# Altium integrated library ECEN299_JLC_Library.IntLib: 29 symbols
Pins are listed as number, name and electrical type; pins without a type are passive.

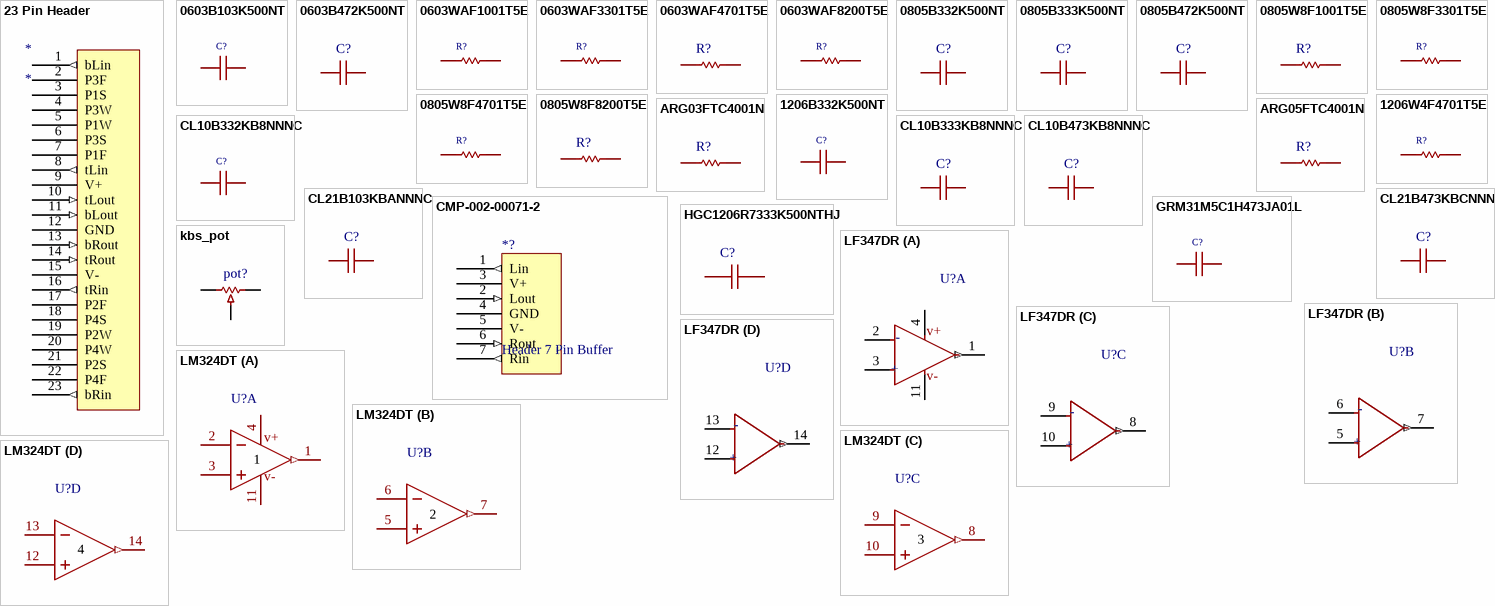
[diagram p0: symbols 23 Pin Header to LM324DT]

## 23 Pin Header
designator *
footprint KBS_23pin_Header_TB_EQ
simulation model NOTSIMULATED (Model Description)
pins: 1 bLin (out), 2 P3F, 3 P1S, 4 P3W, 5 P1W, 6 P3S, 7 P1F, 8 tLin (out), 9 V+ (power), 10 tLout (in), 11 bLout (in), 12 GND (power), 13 bRout (in), 14 tRout (in), 15 V- (power), 16 tRin (out), 17 P2F, 18 P4S, 19 P2W, 20 P4W, 21 P2S, 22 P4F, 23 bRin (out)

## 0603B103K500NT
designator C?  (value not drawn)
Capacitance:10nF Tolerance:±10% Tolerance:±10% Voltage Rated: Temperature Coefficient:; Manufacturer: FH(风华); Value: 10nF; Add into BOM: yes; Tolerance: ±10%; Symbol: 0603B103K500NT; Device: 0603B103K500NT; Supplier: LCSC; Manufacturer Part: 0603B103K500NT; Supplier Part: C57112; JLCPCB Part Class: Basic Part; LCSC Part Name: 10nF ±10% 50V; Supplier Footprint: 0603; Datasheet: https://atta.szlcsc.com/upload/public/pdf/source/20200305/C486355_26A10D38EF8C2A5C37091D0039909270.pdf; Convert to PCB: yes
footprint C0603
3D model C0603_L1.6-W0.8-H0.8
simulation model C_Capacitor_Default (Model Description)
pins: 1, 2

## 0603B472K500NT
designator C?  (value not drawn)
Capacitance:4.7nF Tolerance:±10% Tolerance:±10% Voltage Rated: Temperature Coefficient:; Manufacturer: FH(风华); Add into BOM: yes; Value: 4.7nF; Tolerance: ±10%; Symbol: 0603B472K500NT; Device: 0603B472K500NT; LCSC Part Name: 4.7nF ±10% 50V; Supplier Part: C53987; Manufacturer Part: 0603B472K500NT; Supplier Footprint: 0603; JLCPCB Part Class: Basic Part; Datasheet: https://atta.szlcsc.com/upload/public/pdf/source/20200305/C486355_26A10D38EF8C2A5C37091D0039909270.pdf; Supplier: LCSC; Convert to PCB: yes
footprint C0603
3D model C0603_L1.6-W0.8-H0.8
simulation model C_Capacitor_Default (Model Description)
pins: 1, 2

## 0603WAF1001T5E
designator R?  (value not drawn)
Type:Thick Film Resistors Resistance:1kΩ Tolerance:±1% Tolerance:±1% Power(Watts): Overload Voltage (Max): Temperature Coefficient:±100ppm/℃ Temperature Coefficient:±100ppm/℃ Operating Temperature Range:-55℃~+155℃ Operating Temperature Range:-55℃~+155℃; Manufacturer: UNI-ROYAL(厚声); Value: 1kΩ; Add into BOM: yes; Tolerance: ±1%; Symbol: 0603WAF1001T5E; Device: 0603WAF1001T5E; Supplier: LCSC; Manufacturer Part: 0603WAF1001T5E; Supplier Part: C21190; JLCPCB Part Class: Basic Part; LCSC Part Name: 1kΩ ±1% 100mW 厚膜电阻; Supplier Footprint: 0603; Datasheet: https://atta.szlcsc.com/upload/public/pdf/source/20200306/C422600_1E6D84923E4A46A82E41ADD87F860B5C.pdf; Convert to PCB: yes; Type: Thick Film Resistors; Temperature Coefficient: ±100ppm/℃; Operating Temperature Range: -55℃~+155℃
footprint R0603
3D model R0603
simulation model R_Resistor_Default (Model Description)
pins: 1, 2

## 0603WAF3301T5E
designator R?  (value not drawn)
Type:Thick Film Resistors Resistance:3.3kΩ Tolerance:±1% Tolerance:±1% Power(Watts): Overload Voltage (Max): Temperature Coefficient:±100ppm/℃ Temperature Coefficient:±100ppm/℃ Operating Temperature Range:-55℃~+155℃ Operating Temperature Range:-55℃~+155℃; Manufacturer: UNI-ROYAL(厚声); Value: 3.3kΩ; Add into BOM: yes; Tolerance: ±1%; Symbol: 0603WAF3301T5E; Device: 0603WAF3301T5E; Supplier: LCSC; Manufacturer Part: 0603WAF3301T5E; Supplier Part: C22978; JLCPCB Part Class: Basic Part; LCSC Part Name: 3.3kΩ ±1% 100mW 厚膜电阻; Supplier Footprint: 0603; Datasheet: https://atta.szlcsc.com/upload/public/pdf/source/20200306/C422600_1E6D84923E4A46A82E41ADD87F860B5C.pdf; Convert to PCB: yes; Type: Thick Film Resistors; Temperature Coefficient: ±100ppm/℃; Operating Temperature Range: -55℃~+155℃
footprint R0603
3D model R0603
simulation model R_Resistor_Default (Model Description)
pins: 1, 2

## 0603WAF4701T5E
designator R?  (value not drawn)
Type:Thick Film Resistors Resistance:4.7kΩ Tolerance:±1% Tolerance:±1% Power(Watts): Overload Voltage (Max): Temperature Coefficient:±100ppm/℃ Temperature Coefficient:±100ppm/℃ Operating Temperature Range:-55℃~+155℃ Operating Temperature Range:-55℃~+155℃; Manufacturer: UNI-ROYAL(厚声); Add into BOM: yes; Value: 4.7kΩ; Tolerance: ±1%; Symbol: 0603WAF4701T5E; Device: 0603WAF4701T5E; LCSC Part Name: 4.7kΩ ±1% 100mW 厚膜电阻; Supplier Part: C23162; Manufacturer Part: 0603WAF4701T5E; Supplier Footprint: 0603; JLCPCB Part Class: Basic Part; Datasheet: https://atta.szlcsc.com/upload/public/pdf/source/20200306/C422600_1E6D84923E4A46A82E41ADD87F860B5C.pdf; Supplier: LCSC; Convert to PCB: yes; Type: Thick Film Resistors; Temperature Coefficient: ±100ppm/℃; Operating Temperature Range: -55℃~+155℃
footprint R0603
3D model R0603
simulation model R_Resistor_Default (Model Description)
pins: 1, 2

## 0603WAF8200T5E
designator R?  (value not drawn)
Type:Thick Film Resistors Resistance: Tolerance:±1% Tolerance:±1% Power(Watts): Overload Voltage (Max): Temperature Coefficient:±100ppm/℃ Temperature Coefficient:±100ppm/℃ Operating Temperature Range:-55℃~+155℃ Operating Temperature Range:-55℃~+155℃; Manufacturer: UNI-ROYAL(厚声); Value: 820Ω; Add into BOM: yes; Tolerance: ±1%; Symbol: 0603WAF8200T5E; Device: 0603WAF8200T5E; Supplier: LCSC; Manufacturer Part: 0603WAF8200T5E; Supplier Part: C23253; LCSC Part Name: 820Ω ±1% 100mW 厚膜电阻; Supplier Footprint: 0603; Datasheet: https://atta.szlcsc.com/upload/public/pdf/source/20200306/C422600_1E6D84923E4A46A82E41ADD87F860B5C.pdf; Convert to PCB: yes; Type: Thick Film Resistors; Temperature Coefficient: ±100ppm/℃; Operating Temperature Range: -55℃~+155℃
footprint R0603
3D model R0603
simulation model R_Resistor_Default (Model Description)
pins: 1, 2

## 0805B332K500NT
designator C?  (value not drawn)
Capacitance:3.3nF Tolerance:±10% Tolerance:±10% Voltage Rated: Temperature Coefficient:; Manufacturer: FH(风华); Add into BOM: yes; Value: 3.3nF; Tolerance: ±10%; Symbol: 0805B332K500NT; Device: 0805B332K500NT; LCSC Part Name: 3.3nF ±10% 50V; Supplier Part: C1738; Manufacturer Part: 0805B332K500NT; Supplier Footprint: 0805; JLCPCB Part Class: Extended Part; Datasheet: https://atta.szlcsc.com/upload/public/pdf/source/20200305/C486355_26A10D38EF8C2A5C37091D0039909270.pdf; Supplier: LCSC; Convert to PCB: yes
footprint C0805
3D model C0805_L2.0-W1.3-H1.3
simulation model C_Capacitor_Default (Model Description)
pins: 1, 2

## 0805B333K500NT
designator C?  (value not drawn)
Capacitance:33nF Tolerance:±10% Tolerance:±10% Voltage Rated: Temperature Coefficient:; Manufacturer: FH(风华); Add into BOM: yes; Value: 33nF; Tolerance: ±10%; Symbol: 0805B333K500NT; Device: 0805B333K500NT; LCSC Part Name: 33nF ±10% 50V; Supplier Part: C1739; Manufacturer Part: 0805B333K500NT; Supplier Footprint: 0805; JLCPCB Part Class: Basic Part; Datasheet: https://atta.szlcsc.com/upload/public/pdf/source/20200305/C486355_26A10D38EF8C2A5C37091D0039909270.pdf; Supplier: LCSC; Convert to PCB: yes
footprint C0805
3D model C0805_L2.0-W1.3-H1.3
simulation model C_Capacitor_Default (Model Description)
pins: 1, 2

## 0805B472K500NT
designator C?  (value not drawn)
Capacitance:4.7nF Tolerance:±10% Tolerance:±10% Voltage Rated: Temperature Coefficient:; Manufacturer: FH(风华); Add into BOM: yes; Value: 4.7nF; Tolerance: ±10%; Symbol: 0805B472K500NT; Device: 0805B472K500NT; LCSC Part Name: 4.7nF ±10% 50V; Supplier Part: C1744; Manufacturer Part: 0805B472K500NT; Supplier Footprint: 0805; JLCPCB Part Class: Basic Part; Datasheet: https://atta.szlcsc.com/upload/public/pdf/source/20200305/C486355_26A10D38EF8C2A5C37091D0039909270.pdf; Supplier: LCSC; Convert to PCB: yes
footprint C0805
3D model C0805_L2.0-W1.3-H1.3
simulation model C_Capacitor_Default (Model Description)
pins: 1, 2

## 0805W8F1001T5E
designator R?  (value not drawn)
Type:Thick Film Resistors Resistance:1kΩ Tolerance:±1% Tolerance:±1% Power(Watts): Overload Voltage (Max): Temperature Coefficient:±100ppm/℃ Temperature Coefficient:±100ppm/℃ Operating Temperature Range:-55℃~+155℃ Operating Temperature Range:-55℃~+155℃; Manufacturer: UNI-ROYAL(厚声); Add into BOM: yes; Value: 1kΩ; Tolerance: ±1%; Symbol: 0805W8F1001T5E; Device: 0805W8F1001T5E; LCSC Part Name: 1kΩ ±1% 125mW 厚膜电阻; Supplier Part: C17513; Manufacturer Part: 0805W8F1001T5E; Supplier Footprint: 0805; JLCPCB Part Class: Basic Part; Datasheet: https://atta.szlcsc.com/upload/public/pdf/source/20200306/C422600_1E6D84923E4A46A82E41ADD87F860B5C.pdf; Supplier: LCSC; Convert to PCB: yes; Type: Thick Film Resistors; Temperature Coefficient: ±100ppm/℃; Operating Temperature Range: -55℃~+155℃
footprint R0805
3D model R0805_L2.0-W1.3-H0.6
simulation model R_Resistor_Default (Model Description)
pins: 1, 2

## 0805W8F3301T5E
designator R?  (value not drawn)
Type:Thick Film Resistors Resistance:3.3kΩ Tolerance:±1% Tolerance:±1% Power(Watts): Overload Voltage (Max): Temperature Coefficient:±100ppm/℃ Temperature Coefficient:±100ppm/℃ Operating Temperature Range:-55℃~+155℃ Operating Temperature Range:-55℃~+155℃; Manufacturer: UNI-ROYAL(厚声); Value: 1K; Add into BOM: yes; Tolerance: ±1%; Symbol: 0805W8F3301T5E; Device: 0805W8F3301T5E; Supplier: LCSC; Manufacturer Part: 0805W8F3301T5E; Supplier Part: C26010; LCSC Part Name: 3.3kΩ ±1% 125mW 厚膜电阻; Supplier Footprint: 0805; Datasheet: https://atta.szlcsc.com/upload/public/pdf/source/20200306/C422600_1E6D84923E4A46A82E41ADD87F860B5C.pdf; Convert to PCB: yes; Type: Thick Film Resistors; Temperature Coefficient: ±100ppm/℃; Operating Temperature Range: -55℃~+155℃
footprint R0805
3D model R0805_L2.0-W1.3-H0.6
simulation model R_Resistor_Default (Model Description)
pins: 1, 2

## 0805W8F4701T5E
designator R?  (value not drawn)
Type:Thick Film Resistors Resistance:4.7kΩ Tolerance:±1% Tolerance:±1% Power(Watts): Overload Voltage (Max): Temperature Coefficient:±100ppm/℃ Temperature Coefficient:±100ppm/℃ Operating Temperature Range:-55℃~+155℃ Operating Temperature Range:-55℃~+155℃; Manufacturer: UNI-ROYAL(厚声); Value: 4.7kΩ; Add into BOM: yes; Tolerance: ±1%; Symbol: 0805W8F4701T5E; Device: 0805W8F4701T5E; Supplier: LCSC; Manufacturer Part: 0805W8F4701T5E; Supplier Part: C17673; LCSC Part Name: 4.7kΩ ±1% 125mW 厚膜电阻; Supplier Footprint: 0805; Datasheet: https://atta.szlcsc.com/upload/public/pdf/source/20200306/C422600_1E6D84923E4A46A82E41ADD87F860B5C.pdf; Convert to PCB: yes; Type: Thick Film Resistors; Temperature Coefficient: ±100ppm/℃; Operating Temperature Range: -55℃~+155℃
footprint R0805
3D model R0805_L2.0-W1.3-H0.6
simulation model R_Resistor_Default (Model Description)
pins: 1, 2

## 0805W8F8200T5E
designator R?  (value not drawn)
Type:Thick Film Resistors Resistance: Tolerance:±1% Tolerance:±1% Power(Watts): Overload Voltage (Max): Temperature Coefficient:±100ppm/℃ Temperature Coefficient:±100ppm/℃ Operating Temperature Range:-55℃~+155℃ Operating Temperature Range:-55℃~+155℃; Manufacturer: UNI-ROYAL(厚声); Add into BOM: yes; Value: 1K; Tolerance: ±1%; Symbol: 0805W8F8200T5E; Device: 0805W8F8200T5E; LCSC Part Name: 820Ω ±1% 125mW 厚膜电阻; Supplier Part: C17837; Manufacturer Part: 0805W8F8200T5E; Supplier Footprint: 0805; JLCPCB Part Class: Extended Part; Datasheet: https://atta.szlcsc.com/upload/public/pdf/source/20200306/C422600_1E6D84923E4A46A82E41ADD87F860B5C.pdf; Supplier: LCSC; Convert to PCB: yes; Type: Thick Film Resistors; Temperature Coefficient: ±100ppm/℃; Operating Temperature Range: -55℃~+155℃
footprint R0805
3D model R0805_L2.0-W1.3-H0.6
simulation model R_Resistor_Default (Model Description)
pins: 1, 2

## 1206B332K500NT
designator C?  (value not drawn)
Capacitance:3.3nF Tolerance:±10% Tolerance:±10% Voltage Rated: Temperature Coefficient:; Manufacturer: FH(风华); Value: 3.3nF; Add into BOM: yes; Tolerance: ±10%; Symbol: 1206B332K500NT; Device: 1206B332K500NT; Supplier: LCSC; Manufacturer Part: 1206B332K500NT; Supplier Part: C1863; JLCPCB Part Class: Extended Part; LCSC Part Name: 3.3nF ±10% 50V; Supplier Footprint: 1206; Datasheet: https://atta.szlcsc.com/upload/public/pdf/source/20200305/C486355_26A10D38EF8C2A5C37091D0039909270.pdf; Convert to PCB: yes
footprint C1206
3D model C1206_L3.2-W1.6-H1.3
simulation model C_Capacitor_Default (Model Description)
pins: 1, 2

## 1206W4F4701T5E
designator R?  (value not drawn)
Type:Thick Film Resistors Resistance:4.7kΩ Tolerance:±1% Tolerance:±1% Power(Watts): Overload Voltage (Max): Temperature Coefficient:±100ppm/℃ Temperature Coefficient:±100ppm/℃ Operating Temperature Range:-55℃~+155℃ Operating Temperature Range:-55℃~+155℃; Manufacturer: UNI-ROYAL(厚声); Value: 4.7kΩ; Add into BOM: yes; Tolerance: ±1%; Symbol: 1206W4F4701T5E; Device: 1206W4F4701T5E; Supplier: LCSC; Manufacturer Part: 1206W4F4701T5E; Supplier Part: C17936; LCSC Part Name: 4.7kΩ ±1% 250mW 厚膜电阻; Supplier Footprint: 1206; Datasheet: https://atta.szlcsc.com/upload/public/pdf/source/20200306/C422600_1E6D84923E4A46A82E41ADD87F860B5C.pdf; Convert to PCB: yes; Type: Thick Film Resistors; Temperature Coefficient: ±100ppm/℃; Operating Temperature Range: -55℃~+155℃
footprint R1206
simulation model R_Resistor_Default (Model Description)
pins: 1, 2

## ARG03FTC4001N
designator R?  (value not drawn)
Type:Thin Film Resistor Resistance: Tolerance:±1% Tolerance:±1%; Manufacturer: Viking(光颉); Add into BOM: yes; Value: 4kΩ; Tolerance: ±1%; Symbol: ARG03FTC4001N; Device: ARG03FTC4001N; LCSC Part Name: 4kΩ ±1%; Supplier Part: C2984443; Manufacturer Part: ARG03FTC4001N; Supplier Footprint: 0603; JLCPCB Part Class: Extended Part; Datasheet: https://atta.szlcsc.com/upload/public/pdf/source/20200117/C485675_99063924B4564AF910B7BE66DA8EFA49.pdf; Supplier: LCSC; Convert to PCB: yes; Type: Thin Film Resistor
footprint R0603
3D model R0603
simulation model R_Resistor_Default (Model Description)
pins: 1, 2

## ARG05FTC4001N
designator R?  (value not drawn)
Type:Thin Film Resistor Resistance: Tolerance:±1% Tolerance:±1% Power(Watts): Overload Voltage (Max): Temperature Coefficient:±25ppm/℃ Temperature Coefficient:±25ppm/℃ Operating Temperature Range:-55℃~+155℃ Operating Temperature Range:-55℃~+155℃; Manufacturer: Viking(光颉); Add into BOM: yes; Value: 4kΩ; Tolerance: ±1%; Symbol: ARG05FTC4001N; Device: ARG05FTC4001N; LCSC Part Name: 薄膜电阻 4kΩ ±1% 125mW; Supplier Part: C2828855; Manufacturer Part: ARG05FTC4001N; Supplier Footprint: 0805; Datasheet: https://atta.szlcsc.com/upload/public/pdf/source/20211009/C2828883_CAE7D170B8B230FC4A048BDC7B3A81FC.pdf; Supplier: LCSC; Convert to PCB: yes; Type: Thin Film Resistor; Temperature Coefficient: ±25ppm/℃; Operating Temperature Range: -55℃~+155℃
footprint R0805
3D model R0805_L2.0-W1.3-H0.6
simulation model R_Resistor_Default (Model Description)
pins: 1, 2

## CL10B332KB8NNNC
designator C?  (value not drawn)
Capacitance: Tolerance:±10% Tolerance:±10% Voltage Rated: Temperature Coefficient:; Manufacturer: SAMSUNG(三星); Value: 3.3nF; Add into BOM: yes; Tolerance: ±10%; Symbol: CL10B332KB8NNNC; Device: CL10B332KB8NNNC; Supplier: LCSC; Manufacturer Part: CL10B332KB8NNNC; Supplier Part: C1613; JLCPCB Part Class: Basic Part; LCSC Part Name: 3.3nF ±10% 50V; Supplier Footprint: 0603; Datasheet: https://atta.szlcsc.com/upload/public/pdf/source/20160218/1457707763339.pdf; Convert to PCB: yes
footprint C0603
3D model C0603_L1.6-W0.8-H0.8
simulation model C_Capacitor_Default (Model Description)
pins: 1, 2

## CL10B333KB8NNNC
designator C?  (value not drawn)
Capacitance: Tolerance:±10% Tolerance:±10% Voltage Rated: Temperature Coefficient:; Manufacturer: SAMSUNG(三星); Add into BOM: yes; Value: 33nF; Tolerance: ±10%; Symbol: CL10B333KB8NNNC; Device: CL10B333KB8NNNC; LCSC Part Name: 33nF ±10% 50V; Supplier Part: C21117; Manufacturer Part: CL10B333KB8NNNC; Supplier Footprint: 0603; JLCPCB Part Class: Basic Part; Datasheet: https://atta.szlcsc.com/upload/public/pdf/source/20160218/1457707763339.pdf; Supplier: LCSC; Convert to PCB: yes
footprint C0603
3D model C0603_L1.6-W0.8-H0.8
simulation model C_Capacitor_Default (Model Description)
pins: 1, 2

## CL10B473KB8NNNC
designator C?  (value not drawn)
Capacitance: Tolerance:±10% Tolerance:±10% Voltage Rated: Temperature Coefficient:; Manufacturer: SAMSUNG(三星); Add into BOM: yes; Value: 47nF; Tolerance: ±10%; Symbol: CL10B473KB8NNNC; Device: CL10B473KB8NNNC; LCSC Part Name: 47nF ±10% 50V; Supplier Part: C1622; Manufacturer Part: CL10B473KB8NNNC; Supplier Footprint: 0603; Datasheet: https://atta.szlcsc.com/upload/public/pdf/source/20160218/1457707763339.pdf; Supplier: LCSC; Convert to PCB: yes
footprint C0603
3D model C0603_L1.6-W0.8-H0.8
simulation model C_Capacitor_Default (Model Description)
pins: 1, 2

## CL21B103KBANNNC
designator C?  (value not drawn)
Capacitance: Tolerance:±10% Tolerance:±10% Voltage Rated: Temperature Coefficient:; Manufacturer: SAMSUNG(三星); Add into BOM: yes; Value: 10nF; Tolerance: ±10%; Symbol: CL21B103KBANNNC; Device: CL21B103KBANNNC; LCSC Part Name: 10nF ±10% 50V; Supplier Part: C1710; Manufacturer Part: CL21B103KBANNNC; Supplier Footprint: 0805; JLCPCB Part Class: Basic Part; Datasheet: https://atta.szlcsc.com/upload/public/pdf/source/20160218/1457707763339.pdf; Supplier: LCSC; Convert to PCB: yes
footprint C0805
3D model C0805_L2.0-W1.3-H1.3
simulation model C_Capacitor_Default (Model Description)
pins: 1, 2

## CL21B473KBCNNNC
designator C?  (value not drawn)
Capacitance: Tolerance:±10% Tolerance:±10% Voltage Rated: Temperature Coefficient:; Manufacturer: SAMSUNG(三星); Add into BOM: yes; Value: 47nF; Tolerance: ±10%; Symbol: CL21B473KBCNNNC; Device: CL21B473KBCNNNC; LCSC Part Name: 47nF ±10% 50V; Supplier Part: C53134; Manufacturer Part: CL21B473KBCNNNC; Supplier Footprint: 0805; Datasheet: https://atta.szlcsc.com/upload/public/pdf/source/20160218/1457707763339.pdf; Supplier: LCSC; Convert to PCB: yes
footprint C0805
3D model C0805_L2.0-W1.3-H1.3
simulation model C_Capacitor_Default (Model Description)
pins: 1, 2

## CMP-002-00071-2
designator *?, comment Header 7 Pin Buffer
7 Pin Header for ECEN 299 buffer PCB.; Component Type: Connectors
footprint KBS_7pin_Header_Buffer
simulation model NOTSIMULATED (Model Description)
pins: 1 Lin (out), 2 Lout (in), 3 V+ (power), 4 GND (power), 5 V- (power), 6 Rout (in), 7 Rin (out)

## GRM31M5C1H473JA01L
designator C?  (value not drawn)
Capacitance: Tolerance:±5% Tolerance:±5% Voltage Rated: Temperature Coefficient:; Manufacturer: muRata(村田); Value: 47nF; Add into BOM: yes; Tolerance: ±5%; Symbol: GRM31M5C1H473JA01L; Device: GRM31M5C1H473JA01L; JLCPCB Part Class: Extended Part; Supplier: LCSC; Manufacturer Part: GRM31M5C1H473JA01L; Supplier Part: C21812; LCSC Part Name: 47nF ±5% 50V; Supplier Footprint: 1206; Datasheet: https://atta.szlcsc.com/upload/public/pdf/source/20180228/C21812_15198055830211377594.pdf; Convert to PCB: yes
footprint C1206
3D model C1206_L3.2-W1.6-H1.3
simulation model C_Capacitor_Default (Model Description)
pins: 1, 2

## HGC1206R7333K500NTHJ
designator C?  (value not drawn)
Capacitance: Voltage Rated: Temperature Coefficient:; Manufacturer: Chinocera(华瓷); Add into BOM: yes; Value: 33nF; Symbol: HGC1206R7333K500NTHJ; Device: HGC1206R7333K500NTHJ; LCSC Part Name: 33nF 50V; Supplier Part: C5186847; Manufacturer Part: HGC1206R7333K500NTHJ; Supplier Footprint: 1206; JLCPCB Part Class: Extended Part; Datasheet: https://atta.szlcsc.com/upload/public/pdf/source/20240320/FAC3FEC40A78BC5CCCE96C232A94D860.pdf; Supplier: LCSC; Convert to PCB: yes
footprint C1206
3D model C1206_L3.2-W1.6-H1.3
simulation model C_Capacitor_Default (Model Description)
pins: 1, 2

## kbs_pot
designator pot?  (value not drawn)
value: 10k; position: 0.5
simulation model POT (Model Description)
pins: 0 End1, 1 End2, 2 Wiper

## LF347DR
designator U?  (value not drawn)
Gain Bandwidth Product(GBP):3MHz Current - Input Bias(Ib):50pA Voltage - Input Offset(Vos):5mV Slew Rate(SR):13V/us Supply Current Per Channel:8mA Operating Temperature:0℃~+70℃ Operating Temperature:0℃~+70℃; Manufacturer: TI(德州仪器); Add into BOM: yes; Gain Bandwidth Product(GBP): 3MHz; Current - Input Bias(Ib): 50pA; Voltage - Input Offset(Vos): 5mV; Slew Rate(SR): 13V/us; Supply Current Per Channel: 8mA; Symbol: LF347DR; Device: LF347DR; LCSC Part Name: LF347DR; Supplier Part: C7917; Manufacturer Part: LF347DR; Supplier Footprint: SOIC-14; JLCPCB Part Class: Extended Part; Datasheet: http://www.ti.com/cn/lit/gpn/lf347; Supplier: LCSC; Convert to PCB: yes; Operating Temperature: 0℃~+70℃
footprint SOIC-14_L8.7-W3.9-P1.27-LS6.0-BL
3D model SOIC-14_L8.6-W3.9-H1.8-LS6.0-P1.27
footprint KBS_SO14_w_Guide_Pin_Holes
simulation model IdealOpamp_Saturating (Model Description)
part A pins: 1 1OUT (out), 2 1IN-, 3 1IN+, 4 VCC+ (power), 11 VCC- (power)
part B pins: 5 2IN+, 6 2IN-, 7 2OUT (out)
part C pins: 8 3OUT (out), 9 3IN-, 10 3IN+
part D pins: 12 4IN+, 13 4IN-, 14 4OUT (out)
part A text: v+; -; +; v-
part B text: -; +
part C text: -; +
part D text: -; +

## LM324DT
designator U?  (value not drawn)
Number of Circuits:Quad Gain Bandwidth Product(GBP):1.3MHz Current - Input Bias(Ib):20nA Slew Rate(SR):0.4V/us Output Current:40mA -3db Bandwidth:- Supply Current:1.5mA Operating Temperature:0℃~+70℃ Operating Temperature:0℃~+70℃; Manufacturer: ST(意法半导体); Add into BOM: yes; Number of Circuits: Quad; Gain Bandwidth Product(GBP): 1.3MHz; Current - Input Bias(Ib): 20nA; Output Current: 40mA; Supply Current: 1.5mA; Relevance: []; Symbol: LM324DT; Device: LM324DT; LCSC Part Name: LM324DT; Supplier Part: C71035; Manufacturer Part: LM324DT; Supplier Footprint: SOIC-14; JLCPCB Part Class: Basic Part; Datasheet: https://atta.szlcsc.com/upload/public/pdf/source/20160408/1460100649718.pdf; Supplier: LCSC; Convert to PCB: yes; Slew Rate(SR): 0.4V/us; -3db Bandwidth: -; Operating Temperature: 0℃~+70℃
footprint SOIC-14_L8.7-W3.9-P1.27-LS6.0-BL
3D model SOIC-14_L8.6-W3.9-H1.8-LS6.0-P1.27
footprint KBS_SO14_w_Guide_Pin_Holes
simulation model IdealOpamp_Saturating (Model Description)
part A pins: 1 OUT1 (out), 2 IN1-, 3 IN1+, 4 VCC+ (power), 11 VCC- (power)
part B pins: 5 IN2+, 6 IN2-, 7 OUT2 (out)
part C pins: 8 OUT3 (out), 9 IN3-, 10 IN3+
part D pins: 12 IN4+, 13 IN4-, 14 OUT4 (out)
part A text: v+; v-